# EAGLE library part TLV62568DRLR (library tesseract)
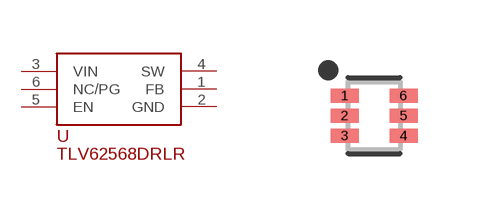
[diagram p4: symbol with the pads of SOT50P160X60-6N; footprint SOT50P160X60-6N]

Designator prefix -

## TLV62568DRLRSOT-5X3  [SOT50P160X60-6N]
1  FB
2  GND
3  VIN
4  SW
5  EN
6  NC/PG

## Footprint SOT50P160X60-6N (pad centres in mm)
6-SOT23, 0.50 mm pitch, 1.60 mm span, 1.60 X 1.20 X 0.60 mm body 6-pin SOT23 package with 0.50 mm pitch, 1.60 mm span with body size 1.60 X 1.20 X 0.60 mm
smd 0.7 x 0.35: 1 -0.735,0.5; 2 -0.735,0; 3 -0.735,-0.5; 4 0.735,-0.5; 5 0.735,0; 6 0.735,0.5